# Altium schematic symbol library Schlib1.SchLib: 5 symbols
Pins are listed as number, name and electrical type; pins without a type are passive.

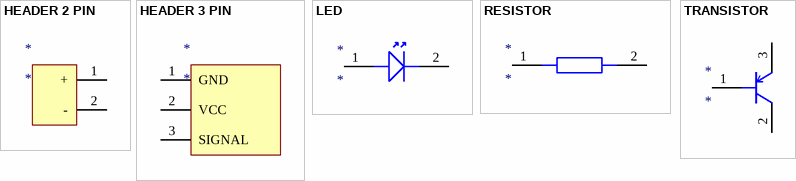
[diagram p0: symbols HEADER 2 PIN to TRANSISTOR]

## HEADER 2 PIN
designator *
footprint KONNECTOR 2 PIN
pins: 1 +, 2 -

## HEADER 3 PIN
designator *
footprint KONNECTOR 3 PIN
pins: 1 GND, 2 VCC, 3 SIGNAL

## LED
designator *
footprint LED
pins: 1, 2

## RESISTOR
designator *
footprint RESISTOR
pins: 1, 2

## TRANSISTOR
designator *
footprint TRANSİSTOR
pins: 1, 2, 3